# Altium footprint library PcbLib1.PcbLib: 329 footprints (part 15 of 21)
Each footprint in its own frame and in the unit in brackets; x right, y up, seen from the top. Pads: shape width x height; smd on the part's side, far side on the other; paste and mask are expansions set on the pad; w line width, h text height; cw(c..) or ccw(c..) is an arc to the next point about the centre after c.
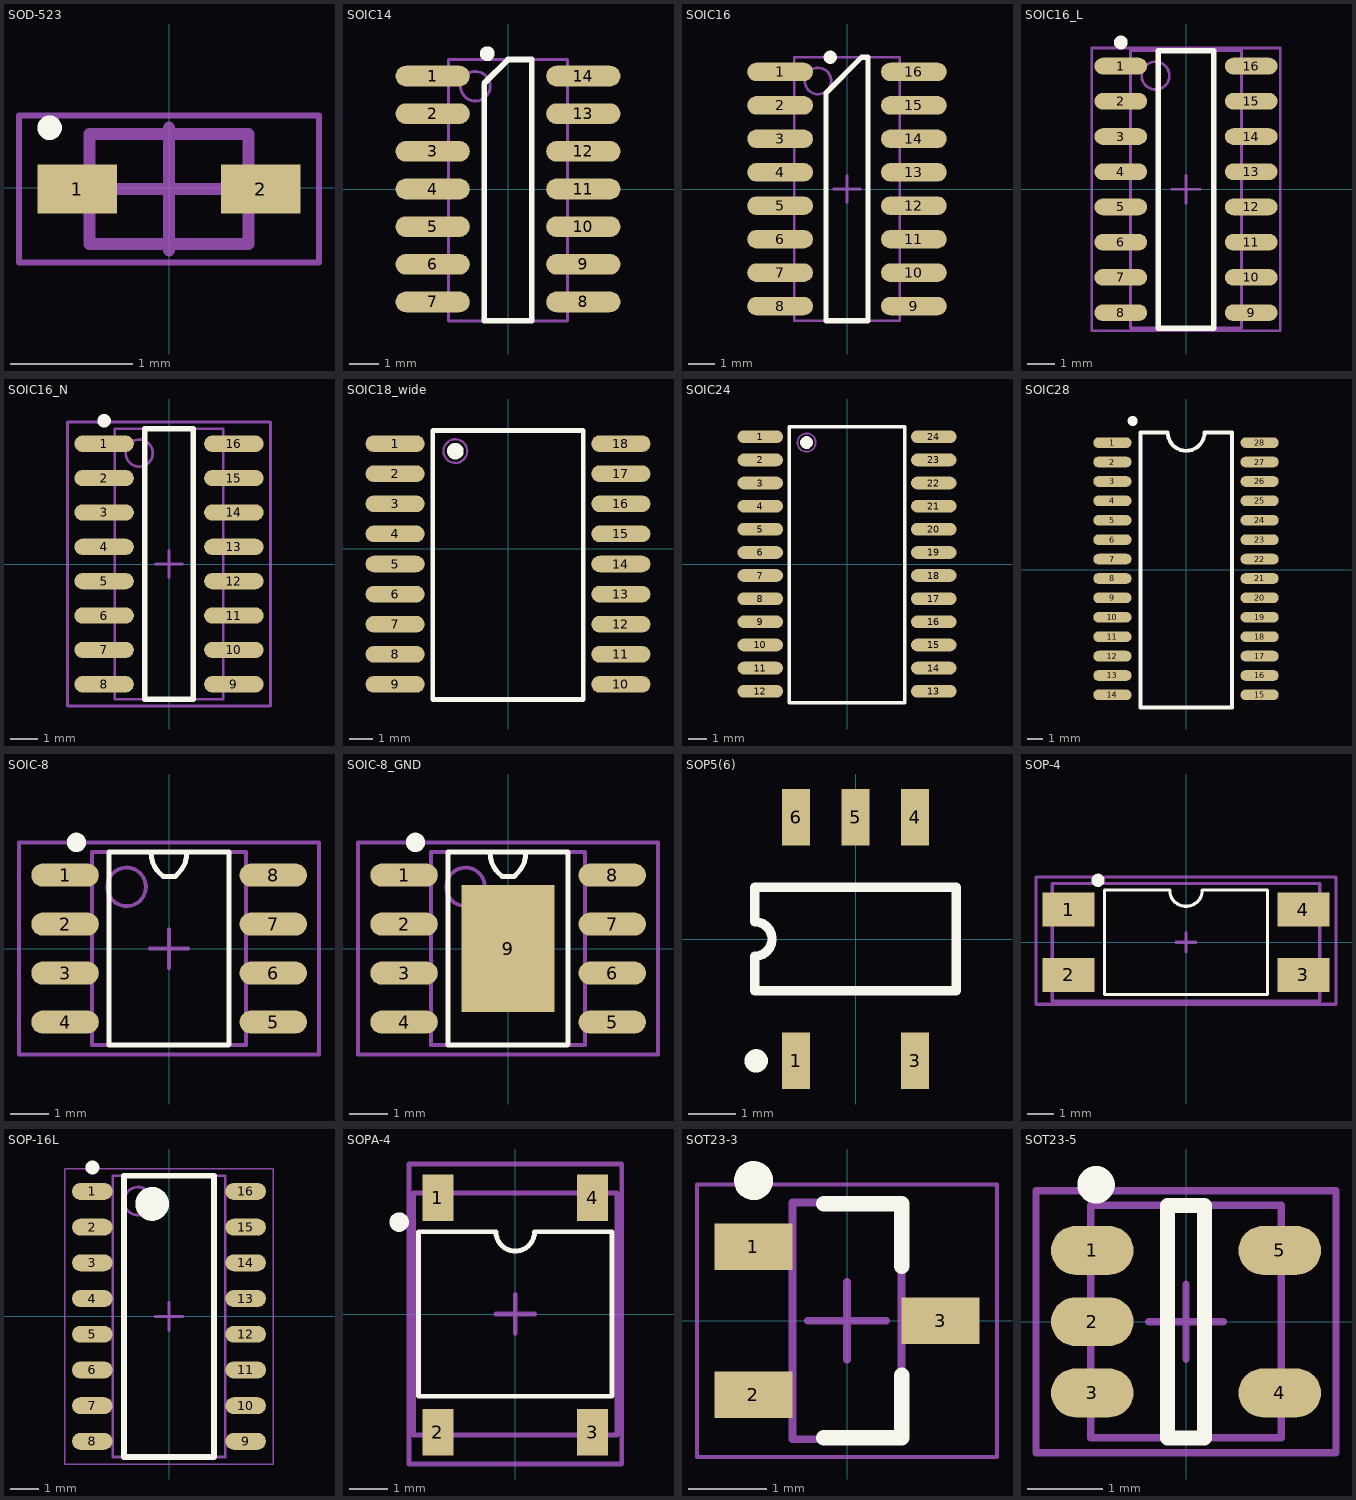
[diagram p14: the footprints below, top view; thin cyan lines are the x and y axes]

## SOD-523 [mm]
pads (2):
  rect 0.65x0.4 smd: 1(-0.754,-0.012) 2(0.746,-0.012)
Top Overlay:
  circle w0.1: c-0.979,0.488 r0.05
Mechanical 13:
  lines w0.1: -0.654,-0.462 0.646,-0.462 0.646,0.438 -0.654,0.438 -0.654,-0.462
Mechanical 15:
  lines w0.05: -1.229,-0.612 1.221,-0.612 1.221,0.588 -1.229,0.588 -1.229,-0.612
  lines w0.1: -0.504,-0.012 0.496,-0.012 ; -0.004,-0.512 -0.004,0.488
3D body "User Library-SOD523F.step": height 0.6, standoff -0.1, extent -0.854,-0.462 0.846,0.438

## SOIC14 [mm] "SOIC, 14-Leads, Body 8.75x4.0mm, Pitch 1.27mm, IPC Low Density"
height 1.91
pads (14):
  oval 2.5x0.7 smd: 1(-2.54,3.81) 2(-2.54,2.54) 3(-2.54,1.27) 4(-2.54,0) 5(-2.54,-1.27) 6(-2.54,-2.54) 7(-2.54,-3.81) 8(2.54,-3.81) 9(2.54,-2.54) 10(2.54,-1.27) 11(2.54,0) 12(2.54,1.27) 13(2.54,2.54) 14(2.54,3.81)
Top Overlay:
  circle w0.25: c-0.7,4.565 r0.125
  lines w0.2: -0.8,-4.445 -0.8,3.565 0,4.365 0.8,4.365 0.8,-4.445 -0.8,-4.445
Mechanical 13:
  circle w0.1: c-1.1,3.465 r0.5
  lines w0.1: -2,-4.445 2,-4.445 2,4.365 -2,4.365 -2,-4.445
3D body "SOIC-14.step": height 1.75, standoff 0, extent -3,-4.375 3,4.375

## SOIC16 [mm] "SOIC, 16-Leads, Body 9.9x9.4mm, Pitch 1.27mm, IPC Low Density"
height 1.91
pads (16):
  oval 2.5x0.7 smd: 1(-2.54,4.445) 2(-2.54,3.175) 3(-2.54,1.905) 4(-2.54,0.635) 5(-2.54,-0.635) 6(-2.54,-1.905) 7(-2.54,-3.175) 8(-2.54,-4.445) 9(2.54,-4.445) 10(2.54,-3.175) 11(2.54,-1.905) 12(2.54,-0.635) 13(2.54,0.635) 14(2.54,1.905) 15(2.54,3.175) 16(2.54,4.445)
Top Overlay:
  lines w0.2: -0.8,-5 0.8,-5 0.8,5 0.555,5 -0.8,3.645 -0.8,-5
  lines w0.25: -0.532,5.07 ccw(c-0.635,5) -0.51,5
Mechanical 13:
  circle w0.1: c-1.1,4.1 r0.5
  lines w0.1: -2,-5 2,-5 2,5 -2,5 -2,-5
Mechanical 15:
  lines w0.1: -0.5,0 0.5,0 ; 0,-0.5 0,0.5
3D body "SOIC16.step": height 1.7, standoff 0, extent -3,-5.1 3,5.1

## SOIC16_L [mm] "SOIC, 16-Leads, Body 9.9x3.9mm, Pitch 1.27mm, IPC High Density"
height 1.91
pads (16):
  oval 1.9x0.6 smd: 1(-2.35,4.445) 2(-2.35,3.175) 3(-2.35,1.905) 4(-2.35,0.635) 5(-2.35,-0.635) 6(-2.35,-1.905) 7(-2.35,-3.175) 8(-2.35,-4.445) 9(2.35,-4.445) 10(2.35,-3.175) 11(2.35,-1.905) 12(2.35,-0.635) 13(2.35,0.635) 14(2.35,1.905) 15(2.35,3.175) 16(2.35,4.445)
Top Overlay:
  circle w0.25: c-2.35,5.295 r0.125
  lines w0.2: -1,-5 -1,5 1,5 1,-5 -1,-5
Mechanical 13:
  circle w0.1: c-1.1,4.1 r0.5
  lines w0.1: -2,-5 -2,5 2,5 2,-5 -2,-5
Mechanical 15:
  lines w0.1: -0.5,0 0.5,0 ; 0,-0.5 0,0.5 ; -3.4,-5.1 -3.4,5.1 3.4,5.1 3.4,-5.1 -3.4,-5.1
3D body: height 1.91, standoff 0, extent -2,-5 2,5

## SOIC16_N [mm] "SOIC, 16-Leads, Body 9.9x3.9mm, Pitch 1.27mm, IPC Medium Density"
height 1.91
pads (16):
  oval 2.2x0.6 smd: 1(-2.4,4.445) 2(-2.4,3.175) 3(-2.4,1.905) 4(-2.4,0.635) 5(-2.4,-0.635) 6(-2.4,-1.905) 7(-2.4,-3.175) 8(-2.4,-4.445) 9(2.4,-4.445) 10(2.4,-3.175) 11(2.4,-1.905) 12(2.4,-0.635) 13(2.4,0.635) 14(2.4,1.905) 15(2.4,3.175) 16(2.4,4.445)
Top Overlay:
  circle w0.25: c-2.4,5.295 r0.125
  lines w0.2: -0.9,-5 -0.9,5 0.9,5 0.9,-5 -0.9,-5
Mechanical 13:
  circle w0.1: c-1.1,4.1 r0.5
  lines w0.1: -2,-5 -2,5 2,5 2,-5 -2,-5
Mechanical 15:
  lines w0.1: -0.5,0 0.5,0 ; 0,-0.5 0,0.5 ; -3.75,-5.25 -3.75,5.25 3.75,5.25 3.75,-5.25 -3.75,-5.25
3D body: height 1.91, standoff 0, extent -2,-5 2,5

## SOIC18_wide [mm] "SOIC, 16-Leads, Body 9.9x9.4mm, Pitch 1.27mm, IPC Low Density"
height 1.91
pads (18):
  oval 2.5x0.7 smd: 1(-4.763,4.445) 2(-4.763,3.175) 3(-4.763,1.905) 4(-4.763,0.635) 5(-4.763,-0.635) 6(-4.763,-1.905) 7(-4.763,-3.175) 8(-4.763,-4.445) 9(-4.763,-5.715) 10(4.763,-5.715) 11(4.763,-4.445) 12(4.763,-3.175) 13(4.763,-1.905) 14(4.763,-0.635) 15(4.763,0.635) 16(4.763,1.905) 17(4.763,3.175) 18(4.763,4.445)
Top Overlay:
  circle w0.45: c-2.222,4.127 r0.125
  lines w0.2: -3.175,-6.35 3.175,-6.35 3.175,5 -3.175,5 -3.175,-6.35
Mechanical 13:
  circle w0.1: c-2.222,4.127 r0.5
  lines w0.1: -3.175,-6.35 3.175,-6.35 3.175,5 -3.175,5 -3.175,-6.35
3D body: height 0.25, standoff 0, extent -0.318,1.27 -0.318,1.27
3D body "SOIC18-300.step": height 2.55, standoff -0.1, extent -5.1,-6.33 5.2,5.2

## SOIC24 [mm] "SOIC, 24-Leads, Pitch 1.27mm"
height 1.91
pads (24):
  oval 2.5x0.7 smd: 1(-4.763,6.985) 2(-4.763,5.715) 3(-4.763,4.445) 4(-4.763,3.175) 5(-4.763,1.905) 6(-4.763,0.635) 7(-4.763,-0.635) 8(-4.763,-1.905) 9(-4.763,-3.175) 10(-4.763,-4.445) 11(-4.763,-5.715) 12(-4.763,-6.985) 13(4.763,-6.985) 14(4.763,-5.715) 15(4.763,-4.445) 16(4.763,-3.175) 17(4.763,-1.905) 18(4.763,-0.635) 19(4.763,0.635) 20(4.763,1.905) 21(4.763,3.175) 22(4.763,4.445) 23(4.763,5.715) 24(4.763,6.985)
Top Overlay:
  circle w0.45: c-2.222,6.667 r0.125
  lines w0.2: -3.175,-7.62 -3.175,7.54 3.175,7.54 3.175,-7.62 -3.175,-7.62
Mechanical 13:
  circle w0.1: c-2.222,6.667 r0.5
  lines w0.1: -3.175,-7.62 -3.175,7.54 3.175,7.54 3.175,-7.62 -3.175,-7.62
3D body: height 0.25, standoff 0, extent -0.318,3.81 -0.318,3.81
3D body "SOIC_24.STEP": height 2.5, standoff -0.1, extent -5.2,-7.86 5.2,7.54

## SOIC28 [mm] "SOIC_28"
height 1.91
pads (28):
  oval 2.5x0.7 smd: 1(-4.83,8.33) 2(-4.83,7.06) 3(-4.83,5.79) 4(-4.83,4.52) 5(-4.83,3.25) 6(-4.83,1.98) 7(-4.83,0.71) 8(-4.83,-0.56) 9(-4.83,-1.83) 10(-4.83,-3.1) 11(-4.83,-4.37) 12(-4.83,-5.64) 13(-4.83,-6.91) 14(-4.83,-8.18) 15(4.81,-8.18) 16(4.81,-6.91) 17(4.81,-5.64) 18(4.81,-4.37) 19(4.81,-3.1) 20(4.81,-1.83) 21(4.81,-0.56) 22(4.81,0.71) 23(4.81,1.98) 24(4.81,3.25) 25(4.81,4.52) 26(4.81,5.79) 27(4.81,7.06) 28(4.81,8.33)
Top Overlay:
  circle w0.4: c-3.5,9.75 r0.125
  lines w0.254: -3,-9 -3,9 -1.204,9 ccw(c0,9) 1.204,9 3,9 3,-9 -3,-9
3D body "28-SOIC.STEP": height 2.73, standoff -0.03, extent -5.15,-8.9 5.15,9

## SOIC-8 [mm] "SOIC, 8-Leads, Body 4.9x3.9mm, Pitch 1.27mm, IPC Medium Density"
height 1.75
pads (8):
  oval 1.75x0.6 smd: 1(-2.696,1.905) 2(-2.696,0.635) 3(-2.696,-0.635) 4(-2.696,-1.905) 5(2.702,-1.905) 6(2.702,-0.635) 7(2.702,0.635) 8(2.702,1.905)
Top Overlay:
  circle w0.25: c-2.4,2.755 r0.125
  lines w0.127: -0.467,2.489 ccw(c0.284,2.489) -0.149,1.876 ; -0.156,1.867 0.156,1.867 0.239,1.95 ccw(c-0.311,2.5) 0.467,2.5 ; -1.556,-2.5 -1.556,2.5 1.556,2.5 1.556,2.334 1.556,-2.489 cw(c1.53,-2.463) 1.53,-2.5 -1.556,-2.5
Mechanical 13:
  circle w0.1: c-1.1,1.6 r0.5
  lines w0.1: -2,-2.5 2,-2.5 2,2.5 -2,2.5 -2,-2.5
Mechanical 15:
  lines w0.1: -0.5,0 0.5,0 ; 0,-0.5 0,0.5 ; -3.889,-2.75 3.889,-2.75 3.889,2.75 -3.889,2.75 -3.889,-2.75
3D body "SOIC8.step": height 1.66, standoff -0.09, extent -3,-2.45 3,2.45

## SOIC-8_GND [mm] "SOIC, 8-Leads, Body 4.9x3.9mm, Pitch 1.27mm, IPC Medium Density"
height 1.75
pads (9):
  oval 1.75x0.6 smd: 1(-2.696,1.905) 2(-2.696,0.635) 3(-2.696,-0.635) 4(-2.696,-1.905) 5(2.702,-1.905) 6(2.702,-0.635) 7(2.702,0.635) 8(2.702,1.905)
  rect 2.41x3.3 smd: 9(0,0)
Top Overlay:
  circle w0.25: c-2.4,2.755 r0.125
  lines w0.127: -0.467,2.489 ccw(c0.284,2.489) -0.149,1.876 ; -0.156,1.867 0.156,1.867 0.239,1.95 ccw(c-0.311,2.5) 0.467,2.5 ; -1.556,-2.5 -1.556,2.5 1.556,2.5 1.556,2.334 1.556,-2.489 cw(c1.53,-2.463) 1.53,-2.5 -1.556,-2.5
Mechanical 13:
  circle w0.1: c-1.1,1.6 r0.5
  lines w0.1: -2,-2.5 2,-2.5 2,2.5 -2,2.5 -2,-2.5
Mechanical 15:
  lines w0.1: -0.5,0 0.5,0 ; 0,-0.5 0,0.5 ; -3.889,-2.75 3.889,-2.75 3.889,2.75 -3.889,2.75 -3.889,-2.75
3D body "SOIC8.step": height 1.66, standoff -0.09, extent -3,-2.45 3,2.45

## SOP5(6) [mm] "Small Outline; 6 Leads (1 Absent); Body Width 4.4 mm; Pitch 1.27 mm"
height 2.4
pads (5):
  rect 0.6x1.2 smd: 1(-1.27,-2.6) 3(1.27,-2.6) 4(1.27,2.6) 5(0,2.6) 6(-1.27,2.6)
Top Overlay:
  circle w0.25: c-2.12,-2.6 r0.125
  lines w0.2: -2.15,-1.1 -2.15,-0.367 ccw(c-2.15,0) -2.15,0.367 -2.15,1.1 2.15,1.1 2.15,-1.1 -2.15,-1.1

## SOP-4 [mm] "6.5mm*4.6mm"
height 5.6
pads (4):
  rect 2x1.3 smd: 1(-4.5,1.25) 2(-4.5,-1.25) 3(4.5,-1.25) 4(4.5,1.25)
Top Overlay:
  circle w0.254: c-3.375,2.375 r0.125
  lines w0.127: -3.125,-2 3.125,-2 3.125,2 0.625,2 cw(c0,2) -0.625,2 -3.125,2 -3.125,-2
Mechanical 13:
  lines w0.127: -5.125,-2.25 5.125,-2.25 5.125,2.25 -5.125,2.25 -5.125,-2.25
Mechanical 15:
  lines w0.127: -0.375,0 0.375,0 ; 0,-0.375 0,0.375 ; -5.75,-2.375 5.75,-2.375 5.75,2.5 -5.75,2.5 -5.75,-2.375
3D body "User Library-TCLT100-SOP4L.step": height 2.05, standoff -0.07, extent -5.1,-2.05 5.1,2.05

## SOP-16L [mm] "TSOP, 16-Leads, Body 9.90x3.90mm, Pitch 1.27mm, IPC Medium Density"
height 1.35
pads (16):
  oval 1.45x0.6 smd: 1(-2.725,4.445) 2(-2.725,3.175) 3(-2.725,1.905) 4(-2.725,0.635) 5(-2.725,-0.635) 6(-2.725,-1.905) 7(-2.725,-3.175) 8(-2.725,-4.445) 9(2.725,-4.445) 10(2.725,-3.175) 11(2.725,-1.905) 12(2.725,-0.635) 13(2.725,0.635) 14(2.725,1.905) 15(2.725,3.175) 16(2.725,4.445)
Top Overlay:
  circle w0.6: c-0.6,4 r0.3
  circle w0.25: c-2.725,5.295 r0.125
  lines w0.2: -1.6,-5 1.6,-5 1.6,5 -1.6,5 -1.6,-5
Mechanical 13:
  circle w0.1: c-1.1,4.1 r0.5
  lines w0.1: -2,-5 2,-5 2,5 -2,5 -2,-5
Mechanical 15:
  lines w0.05: -3.7,-5.25 3.7,-5.25 3.7,5.25 -3.7,5.25 -3.7,-5.25
  lines w0.1: -0.5,0 0.5,0 ; 0,-0.5 0,0.5
3D body: height 1.35, standoff 0.1, extent -2,-5 2,5

## SOPA-4 [mm] "4-SMD Gull wing"
height 5.6
pads (4):
  rect 0.8x1.2 smd: 1(-2,3) 2(-2,-3.05) 3(2,-3.05) 4(2,3)
Top Overlay:
  circle w0.254: c-3,2.375 r0.125
  lines w0.127: -2.5,-2.125 2.5,-2.125 2.5,2.125 0.5,2.125 cw(c0,2.125) -0.5,2.125 -2.5,2.125 -2.5,-2.125
Mechanical 13:
  lines w0.127: -2.625,-3.125 2.625,-3.125 2.625,3.125 -2.625,3.125 -2.625,-3.125
Mechanical 15:
  lines w0.127: -0.5,0 0.5,0 ; 0,-0.5 0,0.5 ; -2.75,-3.875 2.75,-3.875 2.75,3.75 2.75,3.875 -2.75,3.875 -2.75,3.75 -2.75,-3.875
3D body: height 1.1, standoff 0, extent 5.5,-0.125 5.5,-0.125
3D body: height 1.5, standoff 0, extent -2.625,-3.125 2.625,3.125

## SOT23-3 [mm] "SOT23, 3-Leads, Body 2.92x2.37mm, Pitch 0.95mm, IPC Medium Density"
height 1.12
pads (3):
  rect 1x0.6 smd: 1(-1.2,0.95) 2(-1.2,-0.95) 3(1.2,0)
Top Overlay:
  circle w0.25: c-1.2,1.8 r0.125
  lines w0.2: -0.3,-1.5 0.7,-1.5 0.7,-0.7 ; -0.3,1.5 0.7,1.5 0.7,0.7
Mechanical 13:
  lines w0.1: -0.7,-1.52 -0.7,1.52 0.7,1.52 0.7,-1.52 -0.7,-1.52
Mechanical 15:
  lines w0.05: -1.925,-1.75 -1.925,1.75 1.925,1.75 1.925,-1.75 -1.925,-1.75
  lines w0.1: -0.5,0 0.5,0 ; 0,-0.5 0,0.5
3D body: height 1.12, standoff 0.05, extent -0.7,-1.52 0.7,1.52

## SOT23-5 [mm] "SOT23, 5-Leads"
height 1.45
pads (5):
  oval 1.1x0.65 smd: 1(-1.25,0.95) 2(-1.25,0) 3(-1.25,-0.95) 4(1.25,-0.95) 5(1.25,0.95)
Top Overlay:
  circle w0.25: c-1.2,1.825 r0.125
  lines w0.2: -0.25,-1.55 0.25,-1.55 0.25,1.55 -0.25,1.55 -0.25,-1.55
Mechanical 13:
  lines w0.1: -1.27,-1.55 -1.27,1.55 1.27,1.55 1.27,-1.55 -1.27,-1.55
Mechanical 15:
  lines w0.1: -0.5,0 0.5,0 ; 0,-0.5 0,0.5 ; -2,-1.746 -2,1.746 2,1.746 2,-1.746 -2,-1.746
3D body "SW3DPS-SOT-23-5-DEFAULT.STEP": height 1, standoff -0.1, extent -1.25,-1.5 1.25,1.5